# Altium footprint library SnapEDApcb.PcbLib: 1 footprints
Each footprint in its own frame and in the unit in brackets; x right, y up, seen from the top. Pads: shape width x height; smd on the part's side, far side on the other; paste and mask are expansions set on the pad; w line width, h text height; cw(c..) or ccw(c..) is an arc to the next point about the centre after c.
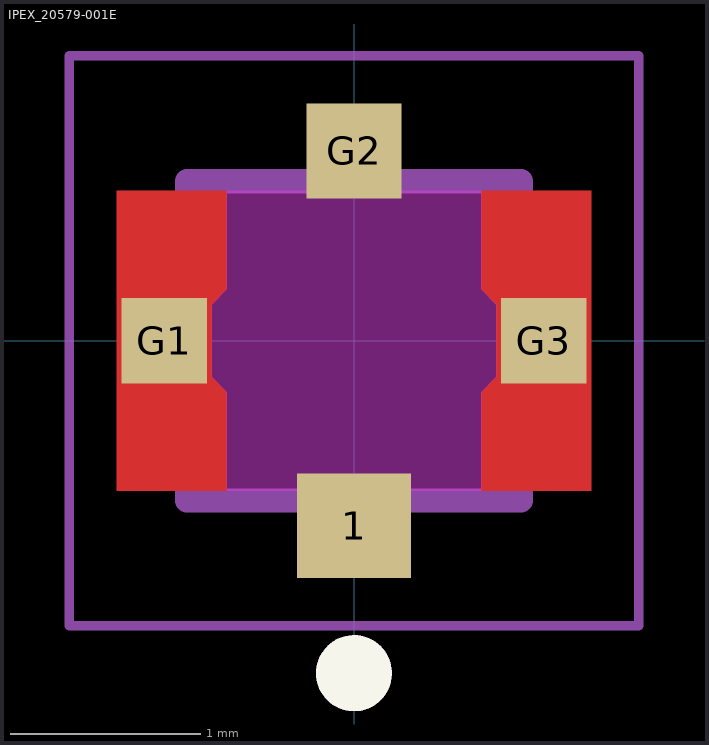
[diagram p0: the footprint, top view; thin cyan lines are the x and y axes]

## IPEX_20579-001E [mm]
pads (4):
  rect 0.6x0.55 smd paste-1: 1(0,-0.975)
  rect 0.45x0.45 smd paste-1 mask+0: G1(-1,0) G3(1,0)
  rect 0.5x0.5 smd paste-1: G2(0,1)
Top Layer:
  region: -0.67,0.27 -0.75,0.19 -0.75,-0.19 -0.67,-0.27 -0.67,-0.79 -1.25,-0.79 -1.25,0.79 -0.67,0.79
  region: 1.25,-0.79 0.67,-0.79 0.67,-0.27 0.75,-0.19 0.75,0.19 0.67,0.27 0.67,0.79 1.25,0.79
Top Overlay:
  circle w0.2: c0,-1.75 r0.1
Top Paste:
  region: 0.19,0.82 -0.19,0.82 -0.19,1.2 0.19,1.2
  region: 0.18,-1.2 -0.18,-1.2 -0.18,-0.84 0.18,-0.84
  region: -0.75,-0.45 -1.25,-0.45 -1.25,0.45 -0.75,0.45
  region: 1.25,-0.45 0.75,-0.45 0.75,0.45 1.25,0.45
Top Solder:
  region: 1.35,-0.89 0.57,-0.89 0.57,-0.15 0.65,-0.09 0.65,0.09 0.57,0.15 0.57,0.89 1.35,0.89
  region: -0.57,0.15 -0.65,0.09 -0.65,-0.09 -0.57,-0.15 -0.57,-0.89 -1.35,-0.89 -1.35,0.89 -0.57,0.89
Keep-Out Layer:
  region: 0.67,0.27 0.75,0.19 0.75,-0.19 0.67,-0.27 0.67,-0.79 0.3,-0.79 0.3,-0.7 -0.3,-0.7 -0.3,-0.79 -0.67,-0.79 -0.67,-0.27 -0.75,-0.19 -0.75,0.19 -0.67,0.27 -0.67,0.79 -0.25,0.79 -0.25,0.75 0.25,0.75 0.25,0.79 0.67,0.79
  region: 0.67,0.27 0.75,0.19 0.75,-0.19 0.67,-0.27 0.67,-0.79 0.3,-0.79 0.3,-0.7 -0.3,-0.7 -0.3,-0.79 -0.67,-0.79 -0.67,-0.27 -0.75,-0.19 -0.75,0.19 -0.67,0.27 -0.67,0.79 -0.25,0.79 -0.25,0.75 0.25,0.75 0.25,0.79 0.67,0.79
  region: 0.67,0.27 0.75,0.19 0.75,-0.19 0.67,-0.27 0.67,-0.79 0.3,-0.79 0.3,-0.7 -0.3,-0.7 -0.3,-0.79 -0.67,-0.79 -0.67,-0.27 -0.75,-0.19 -0.75,0.19 -0.67,0.27 -0.67,0.79 -0.25,0.79 -0.25,0.75 0.25,0.75 0.25,0.79 0.67,0.79
Mechanical 13:
  circle w0.2: c0,-1.75 r0.1
  lines w0.127: -0.88,-0.84 0.88,-0.84 0.88,0.84 -0.88,0.84 -0.88,-0.84
Mechanical 15:
  lines w0.05: -1.5,-1.5 -1.5,1.5 1.5,1.5 1.5,-1.5 -1.5,-1.5